# EAGLE library part SA1110 (library intel-strongarm)
SA-1110 Intel StrongARM SA1110 microcontroller Source: SA-1110 Developer's Manual.
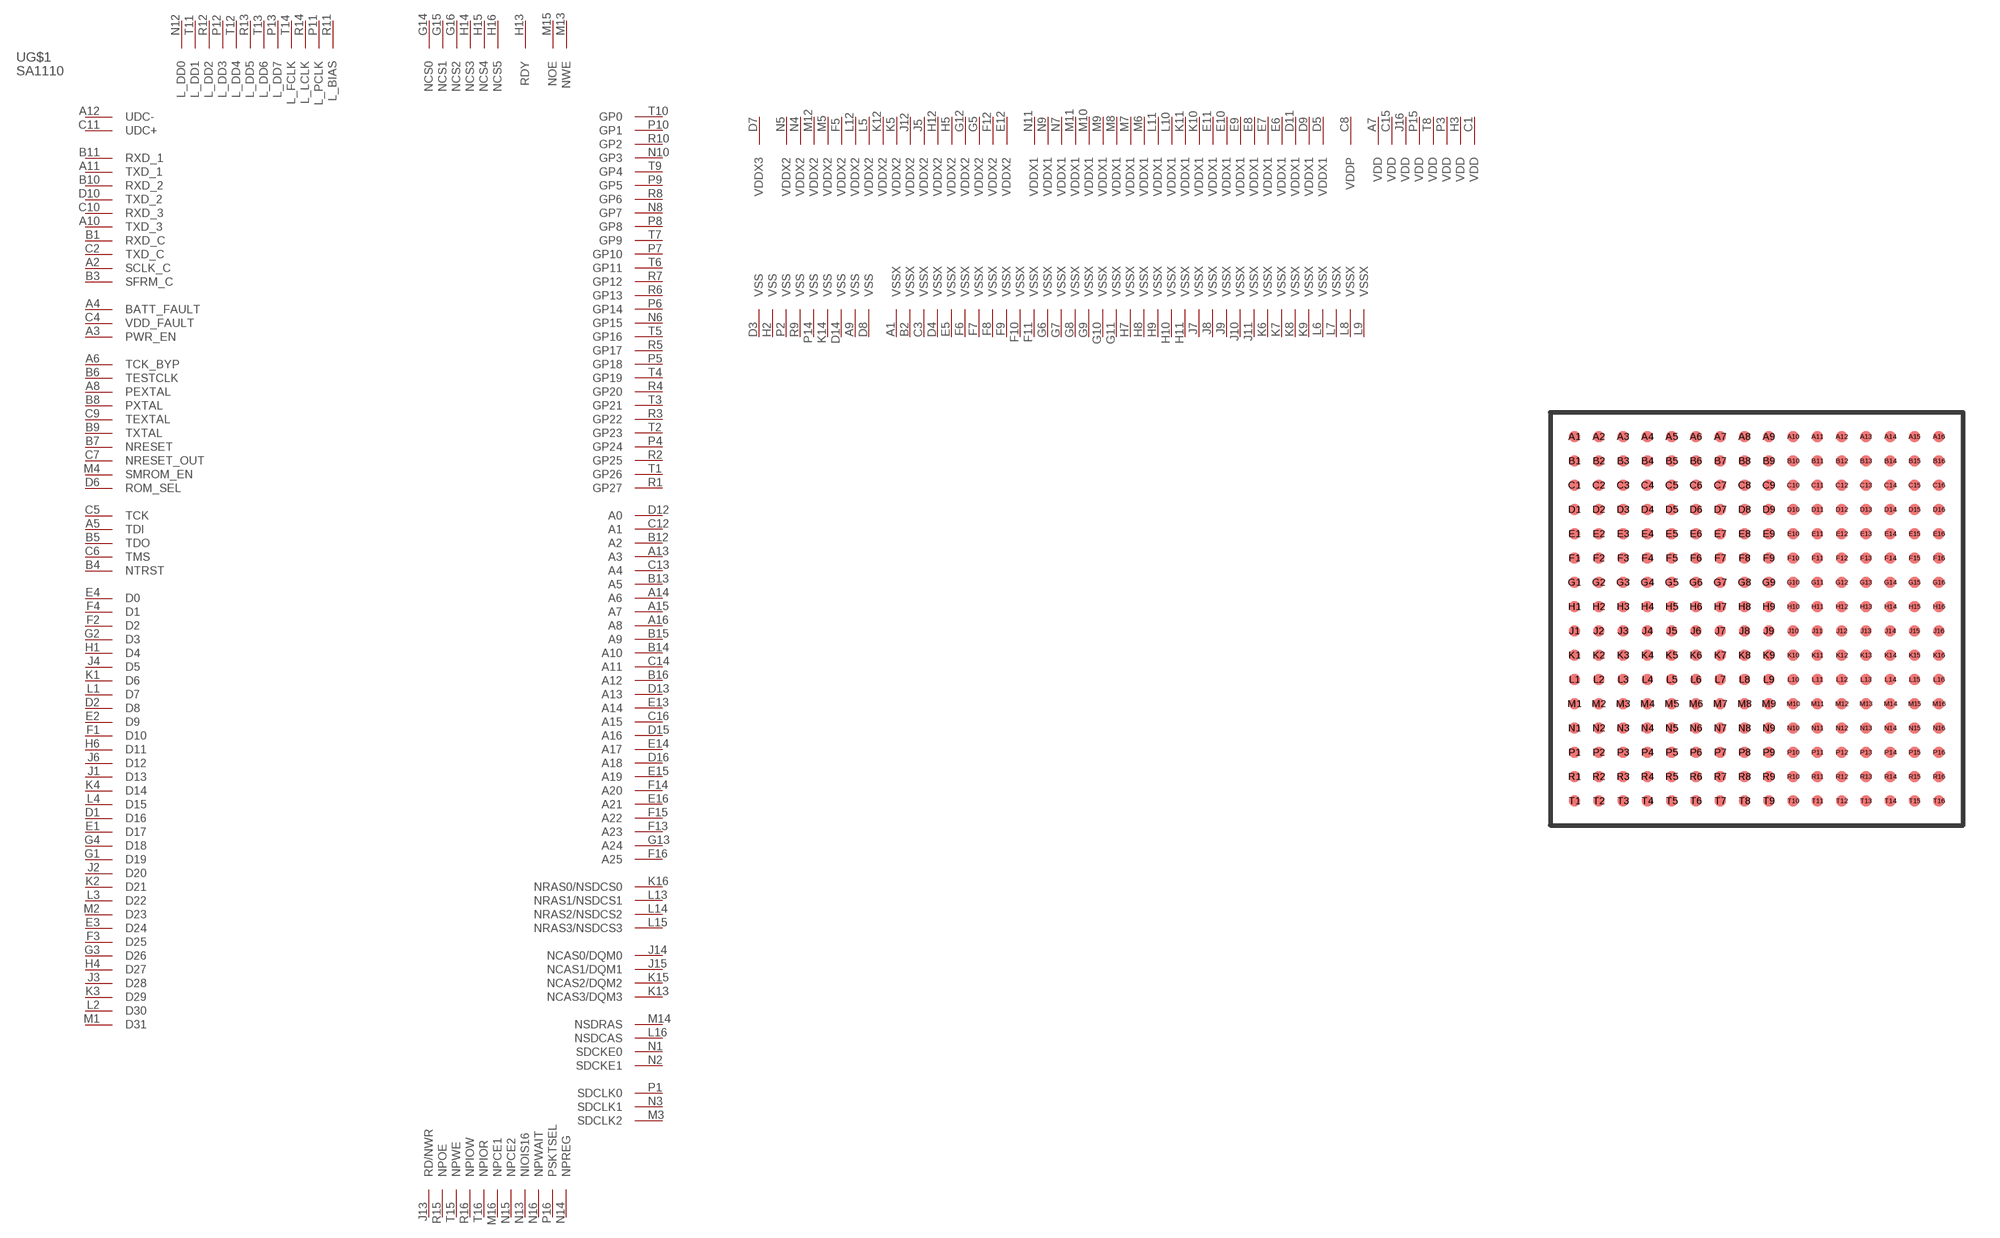
[diagram p0: symbol with the pads of UBGA256; footprint UBGA256]

Designator prefix -; gates G$1=SA1110 G$2=SA1110PWR

## SA1110MBGA256  [UBGA256]
A1  G$2:VSSX  pwr
A2  G$1:SCLK_C  out
A3  G$1:PWR_EN  out
A4  G$1:BATT_FAULT  in
A5  G$1:TDI  in
A6  G$1:TCK_BYP  in
A7  G$2:VDD  pwr
A8  G$1:PEXTAL  out
A9  G$2:VSS  pwr
A10  G$1:TXD_3  out
A11  G$1:TXD_1  out
A12  G$1:UDC-
A13  G$1:A3  out
A14  G$1:A6  out
A15  G$1:A7  out
A16  G$1:A8  out
B1  G$1:RXD_C  in
B2  G$2:VSSX  pwr
B3  G$1:SFRM_C  out
B4  G$1:NTRST  in
B5  G$1:TDO  out
B6  G$1:TESTCLK  in
B7  G$1:NRESET  in
B8  G$1:PXTAL  in
B9  G$1:TXTAL  in
B10  G$1:RXD_2  in
B11  G$1:RXD_1  in
B12  G$1:A2  out
B13  G$1:A5  out
B14  G$1:A10  out
B15  G$1:A9  out
B16  G$1:A12  out
C1  G$2:VDD  pwr
C2  G$1:TXD_C  out
C3  G$2:VSSX  pwr
C4  G$1:VDD_FAULT  in
C5  G$1:TCK  in
C6  G$1:TMS  in
C7  G$1:NRESET_OUT  out
C8  G$2:VDDP  pwr
C9  G$1:TEXTAL  out
C10  G$1:RXD_3  in
C11  G$1:UDC+
C12  G$1:A1  out
C13  G$1:A4  out
C14  G$1:A11  out
C15  G$2:VDD  pwr
C16  G$1:A15  out
D1  G$1:D16
D2  G$1:D8
D3  G$2:VSS  pwr
D4  G$2:VSSX  pwr
D5  G$2:VDDX1  pwr
D6  G$1:ROM_SEL  in
D7  G$2:VDDX3  pwr
D8  G$2:VSS  pwr
D9  G$2:VDDX1  pwr
D10  G$1:TXD_2  out
D11  G$2:VDDX1  pwr
D12  G$1:A0  out
D13  G$1:A13  out
D14  G$2:VSS  pwr
D15  G$1:A16  out
D16  G$1:A18  out
E1  G$1:D17
E2  G$1:D9
E3  G$1:D24
E4  G$1:D0
E5  G$2:VSSX  pwr
E6  G$2:VDDX1  pwr
E7  G$2:VDDX1  pwr
E8  G$2:VDDX1  pwr
E9  G$2:VDDX1  pwr
E10  G$2:VDDX1  pwr
E11  G$2:VDDX1  pwr
E12  G$2:VDDX2  pwr
E13  G$1:A14  out
E14  G$1:A17  out
E15  G$1:A19  out
E16  G$1:A21  out
F1  G$1:D10
F2  G$1:D2
F3  G$1:D25
F4  G$1:D1
F5  G$2:VDDX2  pwr
F6  G$2:VSSX  pwr
F7  G$2:VSSX  pwr
F8  G$2:VSSX  pwr
F9  G$2:VSSX  pwr
F10  G$2:VSSX  pwr
F11  G$2:VSSX  pwr
F12  G$2:VDDX2  pwr
F13  G$1:A23  out
F14  G$1:A20  out
F15  G$1:A22  out
F16  G$1:A25  out
G1  G$1:D19
G2  G$1:D3
G3  G$1:D26
G4  G$1:D18
G5  G$2:VDDX2  pwr
G6  G$2:VSSX  pwr
G7  G$2:VSSX  pwr
G8  G$2:VSSX  pwr
G9  G$2:VSSX  pwr
G10  G$2:VSSX  pwr
G11  G$2:VSSX  pwr
G12  G$2:VDDX2  pwr
G13  G$1:A24  out
G14  G$1:NCS0  out
G15  G$1:NCS1  out
G16  G$1:NCS2  out
H1  G$1:D4
H2  G$2:VSS  pwr
H3  G$2:VDD  pwr
H4  G$1:D27
H5  G$2:VDDX2  pwr
H6  G$1:D11
H7  G$2:VSSX  pwr
H8  G$2:VSSX  pwr
H9  G$2:VSSX  pwr
H10  G$2:VSSX  pwr
H11  G$2:VSSX  pwr
H12  G$2:VDDX2  pwr
H13  G$1:RDY  in
H14  G$1:NCS3  out
H15  G$1:NCS4  out
H16  G$1:NCS5  out
J1  G$1:D13
J2  G$1:D20
J3  G$1:D28
J4  G$1:D5
J5  G$2:VDDX2  pwr
J6  G$1:D12
J7  G$2:VSSX  pwr
J8  G$2:VSSX  pwr
J9  G$2:VSSX  pwr
J10  G$2:VSSX  pwr
J11  G$2:VSSX  pwr
J12  G$2:VDDX2  pwr
J13  G$1:RD/NWR  out
J14  G$1:NCAS0/DQM0  out
J15  G$1:NCAS1/DQM1  out
J16  G$2:VDD  pwr
K1  G$1:D6
K2  G$1:D21
K3  G$1:D29
K4  G$1:D14
K5  G$2:VDDX2  pwr
K6  G$2:VSSX  pwr
K7  G$2:VSSX  pwr
K8  G$2:VSSX  pwr
K9  G$2:VSSX  pwr
K10  G$2:VDDX1  pwr
K11  G$2:VDDX1  pwr
K12  G$2:VDDX2  pwr
K13  G$1:NCAS3/DQM3  out
K14  G$2:VSS  pwr
K15  G$1:NCAS2/DQM2  out
K16  G$1:NRAS0/NSDCS0  out
L1  G$1:D7
L2  G$1:D30
L3  G$1:D22
L4  G$1:D15
L5  G$2:VDDX2  pwr
L6  G$2:VSSX  pwr
L7  G$2:VSSX  pwr
L8  G$2:VSSX  pwr
L9  G$2:VSSX  pwr
L10  G$2:VDDX1  pwr
L11  G$2:VDDX1  pwr
L12  G$2:VDDX2  pwr
L13  G$1:NRAS1/NSDCS1  out
L14  G$1:NRAS2/NSDCS2  out
L15  G$1:NRAS3/NSDCS3  out
L16  G$1:NSDCAS  out
M1  G$1:D31
M2  G$1:D23
M3  G$1:SDCLK2  out
M4  G$1:SMROM_EN  in
M5  G$2:VDDX2  pwr
M6  G$2:VDDX1  pwr
M7  G$2:VDDX1  pwr
M8  G$2:VDDX1  pwr
M9  G$2:VDDX1  pwr
M10  G$2:VDDX1  pwr
M11  G$2:VDDX1  pwr
M12  G$2:VDDX2  pwr
M13  G$1:NWE  out
M14  G$1:NSDRAS  out
M15  G$1:NOE  out
M16  G$1:NPCE1  out
N1  G$1:SDCKE0  out
N2  G$1:SDCKE1  out
N3  G$1:SDCLK1  out
N4  G$2:VDDX2  pwr
N5  G$2:VDDX2  pwr
N6  G$1:GP15
N7  G$2:VDDX1  pwr
N8  G$1:GP7
N9  G$2:VDDX1  pwr
N10  G$1:GP3
N11  G$2:VDDX1  pwr
N12  G$1:L_DD0  out
N13  G$1:NIOIS16  in
N14  G$1:NPREG  out
N15  G$1:NPCE2  out
N16  G$1:NPWAIT  in
P1  G$1:SDCLK0  out
P2  G$2:VSS  pwr
P3  G$2:VDD  pwr
P4  G$1:GP24
P5  G$1:GP18
P6  G$1:GP14
P7  G$1:GP10
P8  G$1:GP8
P9  G$1:GP5
P10  G$1:GP1
P11  G$1:L_PCLK  out
P12  G$1:L_DD3  out
P13  G$1:L_DD7  out
P14  G$2:VSS  pwr
P15  G$2:VDD  pwr
P16  G$1:PSKTSEL  out
R1  G$1:GP27
R2  G$1:GP25
R3  G$1:GP22
R4  G$1:GP20
R5  G$1:GP17
R6  G$1:GP13
R7  G$1:GP12
R8  G$1:GP6
R9  G$2:VSS  pwr
R10  G$1:GP2
R11  G$1:L_BIAS  out
R12  G$1:L_DD2  out
R13  G$1:L_DD5  out
R14  G$1:L_LCLK  out
R15  G$1:NPOE  out
R16  G$1:NPIOW  out
T1  G$1:GP26
T2  G$1:GP23
T3  G$1:GP21
T4  G$1:GP19
T5  G$1:GP16
T6  G$1:GP11
T7  G$1:GP9
T8  G$2:VDD  pwr
T9  G$1:GP4
T10  G$1:GP0
T11  G$1:L_DD1  out
T12  G$1:L_DD4  out
T13  G$1:L_DD6  out
T14  G$1:L_FCLK  out
T15  G$1:NPWE  out
T16  G$1:NPIOR  out

## Footprint UBGA256 (pad centres in mm)
smd 0.45 x 0.45: A1 -7.5,7.5; A2 -6.5,7.5; A3 -5.5,7.5; A4 -4.5,7.5; A5 -3.5,7.5; A6 -2.5,7.5; A7 -1.5,7.5; A8 -0.5,7.5; A9 0.5,7.5; A10 1.5,7.5; A11 2.5,7.5; A12 3.5,7.5; A13 4.5,7.5; A14 5.5,7.5; A15 6.5,7.5; A16 7.5,7.5; B1 -7.5,6.5; B2 -6.5,6.5; B3 -5.5,6.5; B4 -4.5,6.5; B5 -3.5,6.5; B6 -2.5,6.5; B7 -1.5,6.5; B8 -0.5,6.5; B9 0.5,6.5; B10 1.5,6.5; B11 2.5,6.5; B12 3.5,6.5; B13 4.5,6.5; B14 5.5,6.5; B15 6.5,6.5; B16 7.5,6.5; C1 -7.5,5.5; C2 -6.5,5.5; C3 -5.5,5.5; C4 -4.5,5.5; C5 -3.5,5.5; C6 -2.5,5.5; C7 -1.5,5.5; C8 -0.5,5.5; C9 0.5,5.5; C10 1.5,5.5; C11 2.5,5.5; C12 3.5,5.5; C13 4.5,5.5; C14 5.5,5.5; C15 6.5,5.5; C16 7.5,5.5; D1 -7.5,4.5; D2 -6.5,4.5; D3 -5.5,4.5; D4 -4.5,4.5; D5 -3.5,4.5; D6 -2.5,4.5; D7 -1.5,4.5; D8 -0.5,4.5; D9 0.5,4.5; D10 1.5,4.5; D11 2.5,4.5; D12 3.5,4.5; D13 4.5,4.5; D14 5.5,4.5; D15 6.5,4.5; D16 7.5,4.5; E1 -7.5,3.5; E2 -6.5,3.5; E3 -5.5,3.5; E4 -4.5,3.5; E5 -3.5,3.5; E6 -2.5,3.5; E7 -1.5,3.5; E8 -0.5,3.5; E9 0.5,3.5; E10 1.5,3.5; E11 2.5,3.5; E12 3.5,3.5; E13 4.5,3.5; E14 5.5,3.5; E15 6.5,3.5; E16 7.5,3.5; F1 -7.5,2.5; F2 -6.5,2.5; F3 -5.5,2.5; F4 -4.5,2.5; F5 -3.5,2.5; F6 -2.5,2.5; F7 -1.5,2.5; F8 -0.5,2.5; F9 0.5,2.5; F10 1.5,2.5; F11 2.5,2.5; F12 3.5,2.5; F13 4.5,2.5; F14 5.5,2.5; F15 6.5,2.5; F16 7.5,2.5; G1 -7.5,1.5; G2 -6.5,1.5; G3 -5.5,1.5; G4 -4.5,1.5; G5 -3.5,1.5; G6 -2.5,1.5; G7 -1.5,1.5; G8 -0.5,1.5; G9 0.5,1.5; G10 1.5,1.5; G11 2.5,1.5; G12 3.5,1.5; G13 4.5,1.5; G14 5.5,1.5; G15 6.5,1.5; G16 7.5,1.5; H1 -7.5,0.5; H2 -6.5,0.5; H3 -5.5,0.5; H4 -4.5,0.5; H5 -3.5,0.5; H6 -2.5,0.5; H7 -1.5,0.5; H8 -0.5,0.5; H9 0.5,0.5; H10 1.5,0.5; H11 2.5,0.5; H12 3.5,0.5; H13 4.5,0.5; H14 5.5,0.5; H15 6.5,0.5; H16 7.5,0.5; J1 -7.5,-0.5; J2 -6.5,-0.5; J3 -5.5,-0.5; J4 -4.5,-0.5; J5 -3.5,-0.5; J6 -2.5,-0.5; J7 -1.5,-0.5; J8 -0.5,-0.5; J9 0.5,-0.5; J10 1.5,-0.5; J11 2.5,-0.5; J12 3.5,-0.5; J13 4.5,-0.5; J14 5.5,-0.5; J15 6.5,-0.5; J16 7.5,-0.5; K1 -7.5,-1.5; K2 -6.5,-1.5; K3 -5.5,-1.5; K4 -4.5,-1.5; K5 -3.5,-1.5; K6 -2.5,-1.5; K7 -1.5,-1.5; K8 -0.5,-1.5; K9 0.5,-1.5; K10 1.5,-1.5; K11 2.5,-1.5; K12 3.5,-1.5; K13 4.5,-1.5; K14 5.5,-1.5; K15 6.5,-1.5; K16 7.5,-1.5; L1 -7.5,-2.5; L2 -6.5,-2.5; L3 -5.5,-2.5; L4 -4.5,-2.5; L5 -3.5,-2.5; L6 -2.5,-2.5; L7 -1.5,-2.5; L8 -0.5,-2.5; L9 0.5,-2.5; L10 1.5,-2.5; L11 2.5,-2.5; L12 3.5,-2.5; L13 4.5,-2.5; L14 5.5,-2.5; L15 6.5,-2.5; L16 7.5,-2.5; M1 -7.5,-3.5; M2 -6.5,-3.5; M3 -5.5,-3.5; M4 -4.5,-3.5; M5 -3.5,-3.5; M6 -2.5,-3.5; M7 -1.5,-3.5; M8 -0.5,-3.5; M9 0.5,-3.5; M10 1.5,-3.5; M11 2.5,-3.5; M12 3.5,-3.5; M13 4.5,-3.5; M14 5.5,-3.5; M15 6.5,-3.5; M16 7.5,-3.5; N1 -7.5,-4.5; N2 -6.5,-4.5; N3 -5.5,-4.5; N4 -4.5,-4.5; N5 -3.5,-4.5; N6 -2.5,-4.5; N7 -1.5,-4.5; N8 -0.5,-4.5; N9 0.5,-4.5; N10 1.5,-4.5; N11 2.5,-4.5; N12 3.5,-4.5; N13 4.5,-4.5; N14 5.5,-4.5; N15 6.5,-4.5; N16 7.5,-4.5; P1 -7.5,-5.5; P2 -6.5,-5.5; P3 -5.5,-5.5; P4 -4.5,-5.5; P5 -3.5,-5.5; P6 -2.5,-5.5; P7 -1.5,-5.5; P8 -0.5,-5.5; P9 0.5,-5.5; P10 1.5,-5.5; P11 2.5,-5.5; P12 3.5,-5.5; P13 4.5,-5.5; P14 5.5,-5.5; P15 6.5,-5.5; P16 7.5,-5.5; R1 -7.5,-6.5; R2 -6.5,-6.5; R3 -5.5,-6.5; R4 -4.5,-6.5; R5 -3.5,-6.5; R6 -2.5,-6.5; R7 -1.5,-6.5; R8 -0.5,-6.5; R9 0.5,-6.5; R10 1.5,-6.5; R11 2.5,-6.5; R12 3.5,-6.5; R13 4.5,-6.5; R14 5.5,-6.5; R15 6.5,-6.5; R16 7.5,-6.5; T1 -7.5,-7.5; T2 -6.5,-7.5; T3 -5.5,-7.5; T4 -4.5,-7.5; T5 -3.5,-7.5; T6 -2.5,-7.5; T7 -1.5,-7.5; T8 -0.5,-7.5; T9 0.5,-7.5; T10 1.5,-7.5; T11 2.5,-7.5; T12 3.5,-7.5; T13 4.5,-7.5; T14 5.5,-7.5; T15 6.5,-7.5; T16 7.5,-7.5